# EAGLE library part DF9 (library BaseApp)
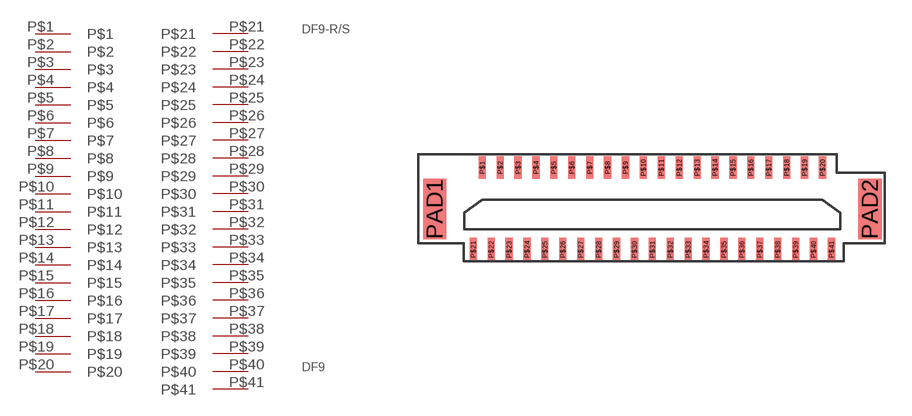
[diagram p23: symbol with the pads of DF9-41PIN; footprint DF9-41PIN]

Designator prefix DF9-R/S

## DF9-RECEPTACLE  [DF9-41PIN]
P$1  P$1
P$2  P$2
P$3  P$3
P$4  P$4
P$5  P$5
P$6  P$6
P$7  P$7
P$8  P$8
P$9  P$9
P$10  P$10
P$11  P$11
P$12  P$12
P$13  P$13
P$14  P$14
P$15  P$15
P$16  P$16
P$17  P$17
P$18  P$18
P$19  P$19
P$20  P$20
P$21  P$21
P$22  P$22
P$23  P$23
P$24  P$24
P$25  P$25
P$26  P$26
P$27  P$27
P$28  P$28
P$29  P$29
P$30  P$30
P$31  P$31
P$32  P$32
P$33  P$33
P$34  P$34
P$35  P$35
P$36  P$36
P$37  P$37
P$38  P$38
P$39  P$39
P$40  P$40
P$41  P$41

## DF9-HEADER  [DF9-41PIN]
Pads as for DF9-41PIN

## Footprint DF9-41PIN (pad centres in mm)
smd 0.4 x 1.27: P$1 -9.5,4.6; P$2 -8.5,4.6; P$3 -7.5,4.6; P$4 -6.5,4.6; P$5 -5.5,4.6; P$6 -4.5,4.6; P$7 -3.5,4.6; P$8 -2.5,4.6; P$9 -1.5,4.6; P$10 -0.5,4.6; P$11 0.5,4.6; P$12 1.5,4.6; P$13 2.5,4.6; P$14 3.5,4.6; P$15 4.5,4.6; P$16 5.5,4.6; P$17 6.5,4.6; P$18 7.5,4.6; P$19 8.5,4.6; P$20 9.5,4.6; P$21 -10,0.03; P$22 -9,0.03; P$23 -8,0.03; P$24 -7,0.03; P$25 -6,0.03; P$26 -5,0.03; P$27 -4,0.03; P$28 -3,0.03; P$29 -2,0.03; P$30 -1,0.03; P$31 0,0.03; P$32 1,0.03; P$33 2,0.03; P$34 3,0.03; P$35 4,0.03; P$36 5,0.03; P$37 6,0.03; P$38 7,0.03; P$39 8,0.03; P$40 9,0.03; P$41 10,0.03
smd 1.3 x 3.4: PAD1 -12.15,2.285; PAD2 12.15,2.285